# EAGLE library part LCD_SPI_128X128-B (library me)
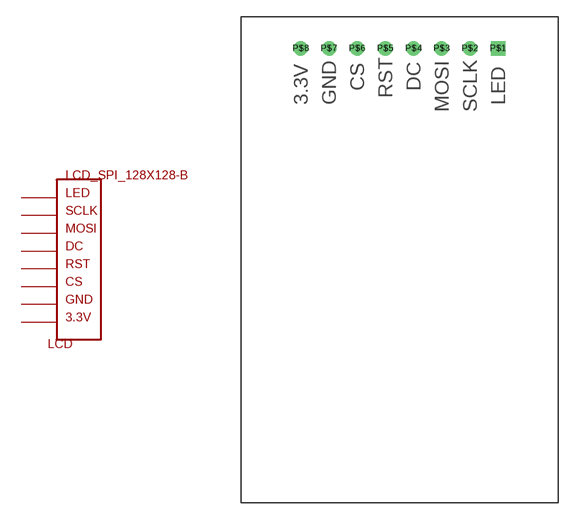
[diagram p15: symbol with the pads of LCD_SPI_1.44_BOTTOM; footprint LCD_SPI_1.44_BOTTOM]

Designator prefix LCD

## LCD_SPI_128X128-B  [LCD_SPI_1.44_BOTTOM]
P$1  P$1
P$2  P$2
P$3  P$3
P$4  P$4
P$5  P$5
P$6  P$6
P$7  P$7
P$8  P$8

## Footprint LCD_SPI_1.44_BOTTOM (pad centres in mm)
drill 0.8 square: P$1 8.89,19.05
drill 0.8: P$2 6.35,19.05; P$3 3.81,19.05; P$4 1.27,19.05; P$5 -1.27,19.05; P$6 -3.81,19.05; P$7 -6.35,19.05; P$8 -8.89,19.05